# EAGLE library part WM2006-ND (library machine_science)
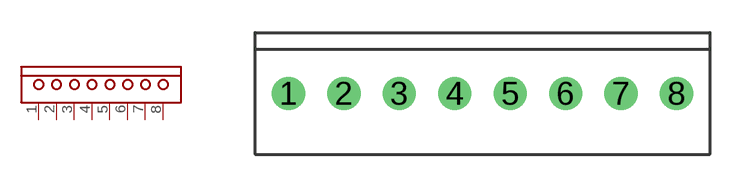
[diagram p26: symbol with the pads of WM20XX_8PIN; footprint WM20XX_8PIN]

Designator prefix -

## WM2006-ND  [WM20XX_8PIN]
1  P$1
2  P$2
3  P$3
4  P$4
5  P$5
6  P$6
7  P$7
8  P$8

## Footprint WM20XX_8PIN (pad centres in mm)
drill 1.016 round: 1 -6.35,0; 2 -3.81,0; 3 -1.27,0; 4 1.27,0; 5 3.81,0; 6 6.35,0; 7 8.89,0; 8 11.43,0